# EAGLE library part MCIMX7D (library imx7d_1900X1900)
MCIMX7D Single ARM Cortex-A7 and Cortex-M4, 512 KB L2 Cache, 19x19
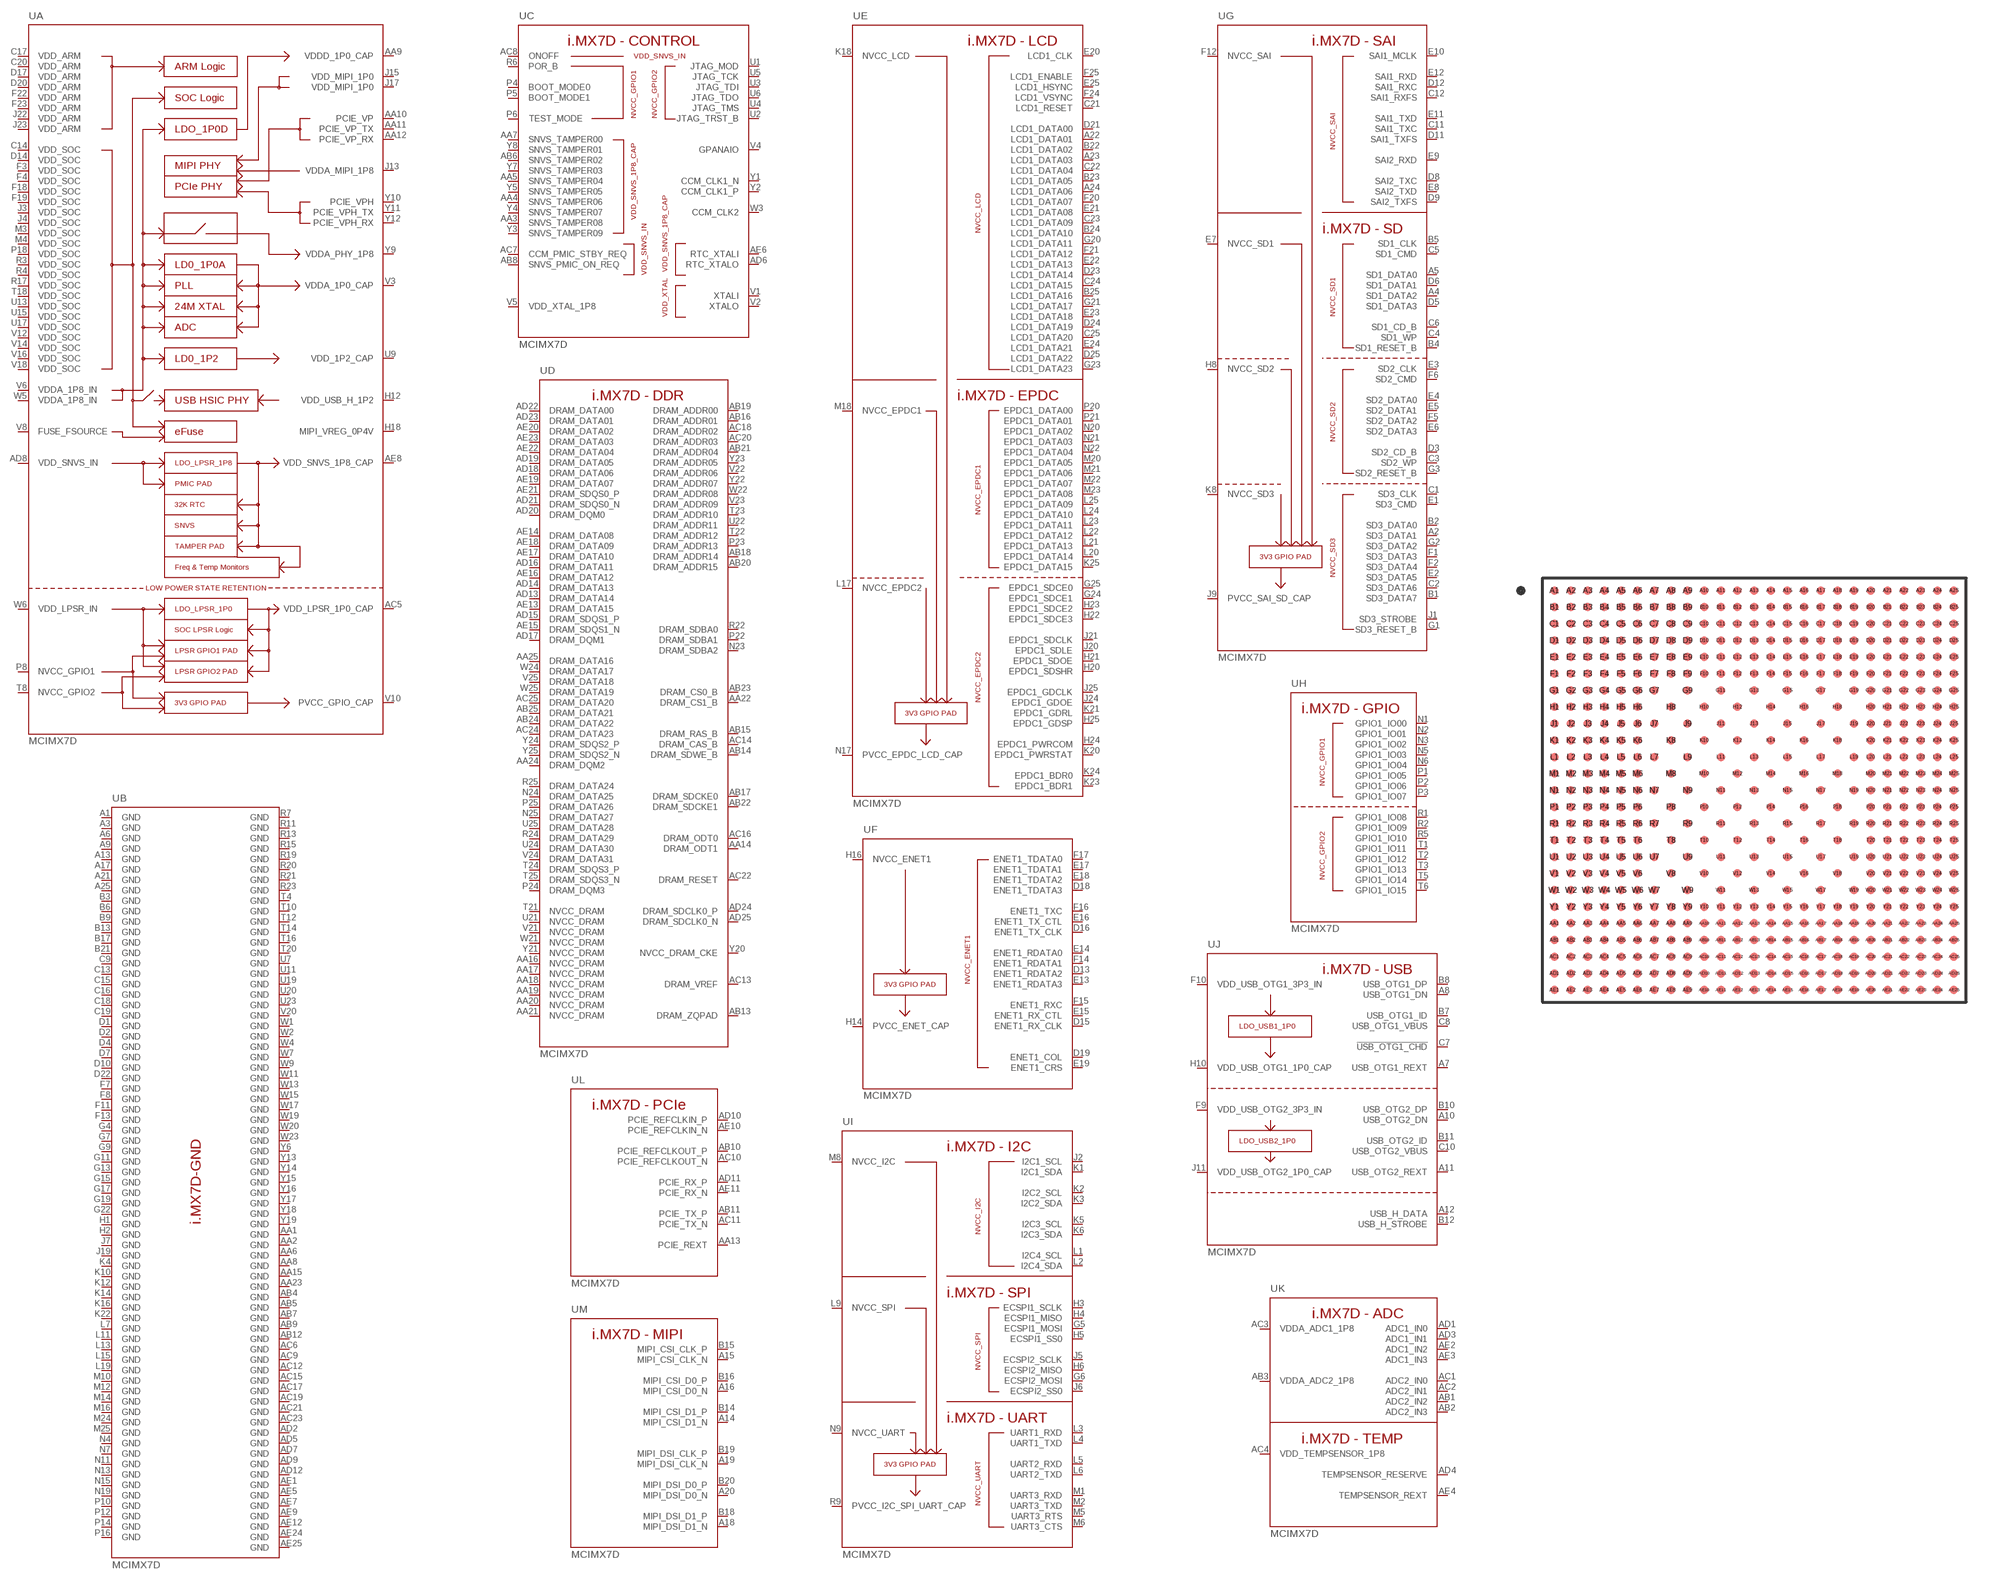
[diagram p0: symbol with the pads of BGA541C75P25X25_1900X1900X140N; footprint BGA541C75P25X25_1900X1900X140N]

Designator prefix U; gates A=I.MX7D-POWER B=I.MX7D-GND C=I.MX7D-CONTROL D=I.MX7D-DDR E=I.MX7D-DISPLAY F=I.MX7D-ENET G=I.MX7D-SAISD H=I.MX7D-GPIO I=I.MX7D-I2CSPIUART J=I.MX7D-USB K=I.MX7D-ADC L=I.MX7D-PCIE M=I.MX7D-MIPI

## MCIMX7D  [BGA541C75P25X25_1900X1900X140N]
A1  B:GND  pwr
A2  G:SD3_DATA1
A3  B:GND  pwr
A4  G:SD1_DATA2
A5  G:SD1_DATA0
A6  B:GND  pwr
A7  J:USB_OTG1_REXT  pas
A8  J:USB_OTG1_DN  pas
A9  B:GND  pwr
A10  J:USB_OTG2_DN  pas
A11  J:USB_OTG2_REXT  pas
A12  J:USB_H_DATA  pas
A13  B:GND  pwr
A14  M:MIPI_CSI_D1_N  pas
A15  M:MIPI_CSI_CLK_N  pas
A16  M:MIPI_CSI_D0_N  pas
A17  B:GND  pwr
A18  M:MIPI_DSI_D1_N  pas
A19  M:MIPI_DSI_CLK_N  pas
A20  M:MIPI_DSI_D0_N  pas
A21  B:GND  pwr
A22  E:LCD1_DATA01
A23  E:LCD1_DATA03
A24  E:LCD1_DATA06
A25  B:GND  pwr
AA1  B:GND  pwr
AA2  B:GND  pwr
AA3  C:SNVS_TAMPER08  pas
AA4  C:SNVS_TAMPER06  pas
AA5  C:SNVS_TAMPER04  pas
AA6  B:GND  pwr
AA7  C:SNVS_TAMPER00  pas
AA8  B:GND  pwr
AA9  A:VDDD_1P0_CAP  pwr
AA10  A:PCIE_VP  pas
AA11  A:PCIE_VP_TX  pas
AA12  A:PCIE_VP_RX  pas
AA13  L:PCIE_REXT  pas
AA14  D:DRAM_ODT1
AA15  B:GND  pwr
AA16  D:NVCC_DRAM  pwr
AA17  D:NVCC_DRAM  pwr
AA18  D:NVCC_DRAM  pwr
AA19  D:NVCC_DRAM  pwr
AA20  D:NVCC_DRAM  pwr
AA21  D:NVCC_DRAM  pwr
AA22  D:DRAM_CS1_B
AA23  B:GND  pwr
AA24  D:DRAM_DQM2
AA25  D:DRAM_DATA16
AB1  K:ADC2_IN2  pas
AB2  K:ADC2_IN3  pas
AB3  K:VDDA_ADC2_1P8  pwr
AB4  B:GND  pwr
AB5  B:GND  pwr
AB6  C:SNVS_TAMPER02  pas
AB7  B:GND  pwr
AB8  C:SNVS_PMIC_ON_REQ  pas
AB9  B:GND  pwr
AB10  L:PCIE_REFCLKOUT_P  pas
AB11  L:PCIE_TX_P  pas
AB12  B:GND  pwr
AB13  D:DRAM_ZQPAD  pas
AB14  D:DRAM_SDWE_B
AB15  D:DRAM_RAS_B
AB16  D:DRAM_ADDR01
AB17  D:DRAM_SDCKE0
AB18  D:DRAM_ADDR14
AB19  D:DRAM_ADDR00
AB20  D:DRAM_ADDR15
AB21  D:DRAM_ADDR04
AB22  D:DRAM_SDCKE1
AB23  D:DRAM_CS0_B
AB24  D:DRAM_DATA22
AB25  D:DRAM_DATA21
AC1  K:ADC2_IN0  pas
AC2  K:ADC2_IN1  pas
AC3  K:VDDA_ADC1_1P8  pwr
AC4  K:VDD_TEMPSENSOR_1P8  pwr
AC5  A:VDD_LPSR_1P0_CAP  pwr
AC6  B:GND  pwr
AC7  C:CCM_PMIC_STBY_REQ  pas
AC8  C:ONOFF  pas
AC9  B:GND  pwr
AC10  L:PCIE_REFCLKOUT_N  pas
AC11  L:PCIE_TX_N  pas
AC12  B:GND  pwr
AC13  D:DRAM_VREF  pas
AC14  D:DRAM_CAS_B
AC15  B:GND  pwr
AC16  D:DRAM_ODT0
AC17  B:GND  pwr
AC18  D:DRAM_ADDR02
AC19  B:GND  pwr
AC20  D:DRAM_ADDR03
AC21  B:GND  pwr
AC22  D:DRAM_RESET
AC23  B:GND  pwr
AC24  D:DRAM_DATA23
AC25  D:DRAM_DATA20
AD1  K:ADC1_IN0  pas
AD2  B:GND  pwr
AD3  K:ADC1_IN1  pas
AD4  K:TEMPSENSOR_RESERVE  pas
AD5  B:GND  pwr
AD6  C:RTC_XTALO  pas
AD7  B:GND  pwr
AD8  A:VDD_SNVS_IN  pwr
AD9  B:GND  pwr
AD10  L:PCIE_REFCLKIN_P  pas
AD11  L:PCIE_RX_P  pas
AD12  B:GND  pwr
AD13  D:DRAM_DATA14
AD14  D:DRAM_DATA13
AD15  D:DRAM_SDQS1_P
AD16  D:DRAM_DATA11
AD17  D:DRAM_DQM1
AD18  D:DRAM_DATA06
AD19  D:DRAM_DATA05
AD20  D:DRAM_DQM0
AD21  D:DRAM_SDQS0_N  pas
AD22  D:DRAM_DATA00
AD23  D:DRAM_DATA01
AD24  D:DRAM_SDCLK0_P
AD25  D:DRAM_SDCLK0_N  pas
AE1  B:GND  pwr
AE2  K:ADC1_IN2  pas
AE3  K:ADC1_IN3  pas
AE4  K:TEMPSENSOR_REXT  pas
AE5  B:GND  pwr
AE6  C:RTC_XTALI  pas
AE7  B:GND  pwr
AE8  A:VDD_SNVS_1P8_CAP  pwr
AE9  B:GND  pwr
AE10  L:PCIE_REFCLKIN_N  pas
AE11  L:PCIE_RX_N  pas
AE12  B:GND  pwr
AE13  D:DRAM_DATA15
AE14  D:DRAM_DATA08
AE15  D:DRAM_SDQS1_N  pas
AE16  D:DRAM_DATA12
AE17  D:DRAM_DATA10
AE18  D:DRAM_DATA09
AE19  D:DRAM_DATA07
AE20  D:DRAM_DATA02
AE21  D:DRAM_SDQS0_P
AE22  D:DRAM_DATA04
AE23  D:DRAM_DATA03
AE24  B:GND  pwr
AE25  B:GND  pwr
B1  G:SD3_DATA7
B2  G:SD3_DATA0
B3  B:GND  pwr
B4  G:SD1_RESET_B
B5  G:SD1_CLK
B6  B:GND  pwr
B7  J:USB_OTG1_ID  pas
B8  J:USB_OTG1_DP  pas
B9  B:GND  pwr
B10  J:USB_OTG2_DP  pas
B11  J:USB_OTG2_ID  pas
B12  J:USB_H_STROBE  pas
B13  B:GND  pwr
B14  M:MIPI_CSI_D1_P  pas
B15  M:MIPI_CSI_CLK_P  pas
B16  M:MIPI_CSI_D0_P  pas
B17  B:GND  pwr
B18  M:MIPI_DSI_D1_P  pas
B19  M:MIPI_DSI_CLK_P  pas
B20  M:MIPI_DSI_D0_P  pas
B21  B:GND  pwr
B22  E:LCD1_DATA02
B23  E:LCD1_DATA05
B24  E:LCD1_DATA10
B25  E:LCD1_DATA16
C1  G:SD3_CLK
C2  G:SD3_DATA6
C3  G:SD2_WP
C4  G:SD1_WP
C5  G:SD1_CMD
C6  G:SD1_CD_B
C7  J:!USB_OTG1_CHD  pas
C8  J:USB_OTG1_VBUS  pas
C9  B:GND  pwr
C10  J:USB_OTG2_VBUS  pas
C11  G:SAI1_TXC
C12  G:SAI1_RXFS
C13  B:GND  pwr
C14  A:VDD_SOC  pwr
C15  B:GND  pwr
C16  B:GND  pwr
C17  A:VDD_ARM  pwr
C18  B:GND  pwr
C19  B:GND  pwr
C20  A:VDD_ARM  pwr
C21  E:LCD1_RESET
C22  E:LCD1_DATA04
C23  E:LCD1_DATA09
C24  E:LCD1_DATA15
C25  E:LCD1_DATA20
D1  B:GND  pwr
D2  B:GND  pwr
D3  G:SD2_CD_B
D4  B:GND  pwr
D5  G:SD1_DATA3
D6  G:SD1_DATA1
D7  B:GND  pwr
D8  G:SAI2_TXC
D9  G:SAI2_TXFS
D10  B:GND  pwr
D11  G:SAI1_TXFS
D12  G:SAI1_RXC
D13  F:ENET1_RDATA2
D14  A:VDD_SOC  pwr
D15  F:ENET1_RX_CLK
D16  F:ENET1_TX_CLK
D17  A:VDD_ARM  pwr
D18  F:ENET1_TDATA3
D19  F:ENET1_COL
D20  A:VDD_ARM  pwr
D21  E:LCD1_DATA00
D22  B:GND  pwr
D23  E:LCD1_DATA14
D24  E:LCD1_DATA19
D25  E:LCD1_DATA22
E1  G:SD3_CMD
E2  G:SD3_DATA5
E3  G:SD2_CLK
E4  G:SD2_DATA0
E5  G:SD2_DATA1
E6  G:SD2_DATA3
E7  G:NVCC_SD1  pwr
E8  G:SAI2_TXD
E9  G:SAI2_RXD
E10  G:SAI1_MCLK
E11  G:SAI1_TXD
E12  G:SAI1_RXD
E13  F:ENET1_RDATA3
E14  F:ENET1_RDATA0
E15  F:ENET1_RX_CTL
E16  F:ENET1_TX_CTL
E17  F:ENET1_TDATA1
E18  F:ENET1_TDATA2
E19  F:ENET1_CRS
E20  E:LCD1_CLK
E21  E:LCD1_DATA08
E22  E:LCD1_DATA13
E23  E:LCD1_DATA18
E24  E:LCD1_DATA21
E25  E:LCD1_HSYNC
F1  G:SD3_DATA3
F2  G:SD3_DATA4
F3  A:VDD_SOC  pwr
F4  A:VDD_SOC  pwr
F5  G:SD2_DATA2
F6  G:SD2_CMD
F7  B:GND  pwr
F8  B:GND  pwr
F9  J:VDD_USB_OTG2_3P3_IN  pwr
F10  J:VDD_USB_OTG1_3P3_IN  pwr
F11  B:GND  pwr
F12  G:NVCC_SAI  pwr
F13  B:GND  pwr
F14  F:ENET1_RDATA1
F15  F:ENET1_RXC
F16  F:ENET1_TXC
F17  F:ENET1_TDATA0
F18  A:VDD_SOC  pwr
F19  A:VDD_SOC  pwr
F20  E:LCD1_DATA07
F21  E:LCD1_DATA12
F22  A:VDD_ARM  pwr
F23  A:VDD_ARM  pwr
F24  E:LCD1_VSYNC
F25  E:LCD1_ENABLE
G1  G:SD3_RESET_B
G2  G:SD3_DATA2
G3  G:SD2_RESET_B
G4  B:GND  pwr
G5  I:ECSPI1_MOSI
G6  I:ECSPI2_MOSI
G7  B:GND  pwr
G9  B:GND  pwr
G11  B:GND  pwr
G13  B:GND  pwr
G15  B:GND  pwr
G17  B:GND  pwr
G19  B:GND  pwr
G20  E:LCD1_DATA11
G21  E:LCD1_DATA17
G22  B:GND  pwr
G23  E:LCD1_DATA23
G24  E:EPDC1_SDCE1
G25  E:EPDC1_SDCE0
H1  B:GND  pwr
H2  B:GND  pwr
H3  I:ECSPI1_SCLK
H4  I:ECSPI1_MISO
H5  I:ECSPI1_SS0
H6  I:ECSPI2_MISO
H8  G:NVCC_SD2  pwr
H10  J:VDD_USB_OTG1_1P0_CAP  pwr
H12  A:VDD_USB_H_1P2  pwr
H14  F:PVCC_ENET_CAP  pwr
H16  F:NVCC_ENET1  pwr
H18  A:MIPI_VREG_0P4V  pas
H20  E:EPDC1_SDSHR
H21  E:EPDC1_SDOE
H22  E:EPDC1_SDCE3
H23  E:EPDC1_SDCE2
H24  E:EPDC1_PWRCOM
H25  E:EPDC1_GDSP
J1  G:SD3_STROBE
J2  I:I2C1_SCL
J3  A:VDD_SOC  pwr
J4  A:VDD_SOC  pwr
J5  I:ECSPI2_SCLK
J6  I:ECSPI2_SS0
J7  B:GND  pwr
J9  G:PVCC_SAI_SD_CAP  pwr
J11  J:VDD_USB_OTG2_1P0_CAP  pwr
J13  A:VDDA_MIPI_1P8  pwr
J15  A:VDD_MIPI_1P0  pwr
J17  A:VDD_MIPI_1P0  pwr
J19  B:GND  pwr
J20  E:EPDC1_SDLE
J21  E:EPDC1_SDCLK
J22  A:VDD_ARM  pwr
J23  A:VDD_ARM  pwr
J24  E:EPDC1_GDOE
J25  E:EPDC1_GDCLK
K1  I:I2C1_SDA
K2  I:I2C2_SCL
K3  I:I2C2_SDA
K4  B:GND  pwr
K5  I:I2C3_SCL
K6  I:I2C3_SDA
K8  G:NVCC_SD3  pwr
K10  B:GND  pwr
K12  B:GND  pwr
K14  B:GND  pwr
K16  B:GND  pwr
K18  E:NVCC_LCD  pwr
K20  E:EPDC1_PWRSTAT
K21  E:EPDC1_GDRL
K22  B:GND  pwr
K23  E:EPDC1_BDR1
K24  E:EPDC1_BDR0
K25  E:EPDC1_DATA15
L1  I:I2C4_SCL
L2  I:I2C4_SDA
L3  I:UART1_RXD
L4  I:UART1_TXD
L5  I:UART2_RXD
L6  I:UART2_TXD
L7  B:GND  pwr
L9  I:NVCC_SPI  pwr
L11  B:GND  pwr
L13  B:GND  pwr
L15  B:GND  pwr
L17  E:NVCC_EPDC2  pwr
L19  B:GND  pwr
L20  E:EPDC1_DATA14
L21  E:EPDC1_DATA13
L22  E:EPDC1_DATA12
L23  E:EPDC1_DATA11
L24  E:EPDC1_DATA10
L25  E:EPDC1_DATA09
M1  I:UART3_RXD
M2  I:UART3_TXD
M3  A:VDD_SOC  pwr
M4  A:VDD_SOC  pwr
M5  I:UART3_RTS
M6  I:UART3_CTS
M8  I:NVCC_I2C  pwr
M10  B:GND  pwr
M12  B:GND  pwr
M14  B:GND  pwr
M16  B:GND  pwr
M18  E:NVCC_EPDC1  pwr
M20  E:EPDC1_DATA05
M21  E:EPDC1_DATA06
M22  E:EPDC1_DATA07
M23  E:EPDC1_DATA08
M24  B:GND  pwr
M25  B:GND  pwr
N1  H:GPIO1_IO00
N2  H:GPIO1_IO01
N3  H:GPIO1_IO02
N4  B:GND  pwr
N5  H:GPIO1_IO03
N6  H:GPIO1_IO04
N7  B:GND  pwr
N9  I:NVCC_UART  pwr
N11  B:GND  pwr
N13  B:GND  pwr
N15  B:GND  pwr
N17  E:PVCC_EPDC_LCD_CAP  pwr
N19  B:GND  pwr
N20  E:EPDC1_DATA02
N21  E:EPDC1_DATA03
N22  E:EPDC1_DATA04
N23  D:DRAM_SDBA2
N24  D:DRAM_DATA25
N25  D:DRAM_DATA27
P1  H:GPIO1_IO05
P2  H:GPIO1_IO06
P3  H:GPIO1_IO07
P4  C:BOOT_MODE0
P5  C:BOOT_MODE1
P6  C:TEST_MODE  in
P8  A:NVCC_GPIO1  pwr
P10  B:GND  pwr
P12  B:GND  pwr
P14  B:GND  pwr
P16  B:GND  pwr
P18  A:VDD_SOC  pwr
P20  E:EPDC1_DATA00
P21  E:EPDC1_DATA01
P22  D:DRAM_SDBA1
P23  D:DRAM_ADDR13
P24  D:DRAM_DQM3
P25  D:DRAM_DATA26
R1  H:GPIO1_IO08
R2  H:GPIO1_IO09
R3  A:VDD_SOC  pwr
R4  A:VDD_SOC  pwr
R5  H:GPIO1_IO10
R6  C:POR_B  in
R7  B:GND  pwr
R9  I:PVCC_I2C_SPI_UART_CAP  pwr
R11  B:GND  pwr
R13  B:GND  pwr
R15  B:GND  pwr
R17  A:VDD_SOC  pwr
R19  B:GND  pwr
R20  B:GND  pwr
R21  B:GND  pwr
R22  D:DRAM_SDBA0
R23  B:GND  pwr
R24  D:DRAM_DATA29
R25  D:DRAM_DATA24
T1  H:GPIO1_IO11
T2  H:GPIO1_IO12
T3  H:GPIO1_IO13
T4  B:GND  pwr
T5  H:GPIO1_IO14
T6  H:GPIO1_IO15
T8  A:NVCC_GPIO2  pwr
T10  B:GND  pwr
T12  B:GND  pwr
T14  B:GND  pwr
T16  B:GND  pwr
T18  A:VDD_SOC  pwr
T20  B:GND  pwr
T21  D:NVCC_DRAM  pwr
T22  D:DRAM_ADDR12
T23  D:DRAM_ADDR10
T24  D:DRAM_SDQS3_P
T25  D:DRAM_SDQS3_N  pas
U1  C:JTAG_MOD  in
U2  C:JTAG_TRST_B  in
U3  C:JTAG_TDI  in
U4  C:JTAG_TMS  in
U5  C:JTAG_TCK  in
U6  C:JTAG_TDO  out
U7  B:GND  pwr
U9  A:VDD_1P2_CAP  pwr
U11  B:GND  pwr
U13  A:VDD_SOC  pwr
U15  A:VDD_SOC  pwr
U17  A:VDD_SOC  pwr
U19  B:GND  pwr
U20  B:GND  pwr
U21  D:NVCC_DRAM  pwr
U22  D:DRAM_ADDR11
U23  B:GND  pwr
U24  D:DRAM_DATA30
U25  D:DRAM_DATA28
V1  C:XTALI  pas
V2  C:XTALO  pas
V3  A:VDDA_1P0_CAP  pwr
V4  C:GPANAIO  pas
V5  C:VDD_XTAL_1P8  pwr
V6  A:VDDA_1P8_IN  pwr
V8  A:FUSE_FSOURCE  pas
V10  A:PVCC_GPIO_CAP  pwr
V12  A:VDD_SOC  pwr
V14  A:VDD_SOC  pwr
V16  A:VDD_SOC  pwr
V18  A:VDD_SOC  pwr
V20  B:GND  pwr
V21  D:NVCC_DRAM  pwr
V22  D:DRAM_ADDR06
V23  D:DRAM_ADDR09
V24  D:DRAM_DATA31
V25  D:DRAM_DATA18
W1  B:GND  pwr
W2  B:GND  pwr
W3  C:CCM_CLK2  pas
W4  B:GND  pwr
W5  A:VDDA_1P8_IN  pwr
W6  A:VDD_LPSR_IN  pwr
W7  B:GND  pwr
W9  B:GND  pwr
W11  B:GND  pwr
W13  B:GND  pwr
W15  B:GND  pwr
W17  B:GND  pwr
W19  B:GND  pwr
W20  B:GND  pwr
W21  D:NVCC_DRAM  pwr
W22  D:DRAM_ADDR08
W23  B:GND  pwr
W24  D:DRAM_DATA17
W25  D:DRAM_DATA19
Y1  C:CCM_CLK1_N  pas
Y2  C:CCM_CLK1_P  pas
Y3  C:SNVS_TAMPER09  pas
Y4  C:SNVS_TAMPER07  pas
Y5  C:SNVS_TAMPER05  pas
Y6  B:GND  pwr
Y7  C:SNVS_TAMPER03  pas
Y8  C:SNVS_TAMPER01  pas
Y9  A:VDDA_PHY_1P8  pwr
Y10  A:PCIE_VPH  pas
Y11  A:PCIE_VPH_TX  pas
Y12  A:PCIE_VPH_RX  pas
Y13  B:GND  pwr
Y14  B:GND  pwr
Y15  B:GND  pwr
Y16  B:GND  pwr
Y17  B:GND  pwr
Y18  B:GND  pwr
Y19  B:GND  pwr
Y20  D:NVCC_DRAM_CKE  pwr
Y21  D:NVCC_DRAM  pwr
Y22  D:DRAM_ADDR07
Y23  D:DRAM_ADDR05
Y24  D:DRAM_SDQS2_P
Y25  D:DRAM_SDQS2_N  pas

## Footprint BGA541C75P25X25_1900X1900X140N (pad centres in mm)
smd 0.37 x 0.37: A1 -9,9; A2 -8.25,9; A3 -7.5,9; A4 -6.75,9; A5 -6,9; A6 -5.25,9; A7 -4.5,9; A8 -3.75,9; A9 -3,9; A10 -2.25,9; A11 -1.5,9; A12 -0.75,9; A13 0,9; A14 0.75,9; A15 1.5,9; A16 2.25,9; A17 3,9; A18 3.75,9; A19 4.5,9; A20 5.25,9; A21 6,9; A22 6.75,9; A23 7.5,9; A24 8.25,9; A25 9,9; AA1 -9,-6; AA2 -8.25,-6; AA3 -7.5,-6; AA4 -6.75,-6; AA5 -6,-6; AA6 -5.25,-6; AA7 -4.5,-6; AA8 -3.75,-6; AA9 -3,-6; AA10 -2.25,-6; AA11 -1.5,-6; AA12 -0.75,-6; AA13 0,-6; AA14 0.75,-6; AA15 1.5,-6; AA16 2.25,-6; AA17 3,-6; AA18 3.75,-6; AA19 4.5,-6; AA20 5.25,-6; AA21 6,-6; AA22 6.75,-6; AA23 7.5,-6; AA24 8.25,-6; AA25 9,-6; AB1 -9,-6.75; AB2 -8.25,-6.75; AB3 -7.5,-6.75; AB4 -6.75,-6.75; AB5 -6,-6.75; AB6 -5.25,-6.75; AB7 -4.5,-6.75; AB8 -3.75,-6.75; AB9 -3,-6.75; AB10 -2.25,-6.75; AB11 -1.5,-6.75; AB12 -0.75,-6.75; AB13 0,-6.75; AB14 0.75,-6.75; AB15 1.5,-6.75; AB16 2.25,-6.75; AB17 3,-6.75; AB18 3.75,-6.75; AB19 4.5,-6.75; AB20 5.25,-6.75; AB21 6,-6.75; AB22 6.75,-6.75; AB23 7.5,-6.75; AB24 8.25,-6.75; AB25 9,-6.75; AC1 -9,-7.5; AC2 -8.25,-7.5; AC3 -7.5,-7.5; AC4 -6.75,-7.5; AC5 -6,-7.5; AC6 -5.25,-7.5; AC7 -4.5,-7.5; AC8 -3.75,-7.5; AC9 -3,-7.5; AC10 -2.25,-7.5; AC11 -1.5,-7.5; AC12 -0.75,-7.5; AC13 0,-7.5; AC14 0.75,-7.5; AC15 1.5,-7.5; AC16 2.25,-7.5; AC17 3,-7.5; AC18 3.75,-7.5; AC19 4.5,-7.5; AC20 5.25,-7.5; AC21 6,-7.5; AC22 6.75,-7.5; AC23 7.5,-7.5; AC24 8.25,-7.5; AC25 9,-7.5; AD1 -9,-8.25; AD2 -8.25,-8.25; AD3 -7.5,-8.25; AD4 -6.75,-8.25; AD5 -6,-8.25; AD6 -5.25,-8.25; AD7 -4.5,-8.25; AD8 -3.75,-8.25; AD9 -3,-8.25; AD10 -2.25,-8.25; AD11 -1.5,-8.25; AD12 -0.75,-8.25; AD13 0,-8.25; AD14 0.75,-8.25; AD15 1.5,-8.25; AD16 2.25,-8.25; AD17 3,-8.25; AD18 3.75,-8.25; AD19 4.5,-8.25; AD20 5.25,-8.25; AD21 6,-8.25; AD22 6.75,-8.25; AD23 7.5,-8.25; AD24 8.25,-8.25; AD25 9,-8.25; AE1 -9,-9; AE2 -8.25,-9; AE3 -7.5,-9; AE4 -6.75,-9; AE5 -6,-9; AE6 -5.25,-9; AE7 -4.5,-9; AE8 -3.75,-9; AE9 -3,-9; AE10 -2.25,-9; AE11 -1.5,-9; AE12 -0.75,-9; AE13 0,-9; AE14 0.75,-9; AE15 1.5,-9; AE16 2.25,-9; AE17 3,-9; AE18 3.75,-9; AE19 4.5,-9; AE20 5.25,-9; AE21 6,-9; AE22 6.75,-9; AE23 7.5,-9; AE24 8.25,-9; AE25 9,-9; B1 -9,8.25; B2 -8.25,8.25; B3 -7.5,8.25; B4 -6.75,8.25; B5 -6,8.25; B6 -5.25,8.25; B7 -4.5,8.25; B8 -3.75,8.25; B9 -3,8.25; B10 -2.25,8.25; B11 -1.5,8.25; B12 -0.75,8.25; B13 0,8.25; B14 0.75,8.25; B15 1.5,8.25; B16 2.25,8.25; B17 3,8.25; B18 3.75,8.25; B19 4.5,8.25; B20 5.25,8.25; B21 6,8.25; B22 6.75,8.25; B23 7.5,8.25; B24 8.25,8.25; B25 9,8.25; C1 -9,7.5; C2 -8.25,7.5; C3 -7.5,7.5; C4 -6.75,7.5; C5 -6,7.5; C6 -5.25,7.5; C7 -4.5,7.5; C8 -3.75,7.5; C9 -3,7.5; C10 -2.25,7.5; C11 -1.5,7.5; C12 -0.75,7.5; C13 0,7.5; C14 0.75,7.5; C15 1.5,7.5; C16 2.25,7.5; C17 3,7.5; C18 3.75,7.5; C19 4.5,7.5; C20 5.25,7.5; C21 6,7.5; C22 6.75,7.5; C23 7.5,7.5; C24 8.25,7.5; C25 9,7.5; D1 -9,6.75; D2 -8.25,6.75; D3 -7.5,6.75; D4 -6.75,6.75; D5 -6,6.75; D6 -5.25,6.75; D7 -4.5,6.75; D8 -3.75,6.75; D9 -3,6.75; D10 -2.25,6.75; D11 -1.5,6.75; D12 -0.75,6.75; D13 0,6.75; D14 0.75,6.75; D15 1.5,6.75; D16 2.25,6.75; D17 3,6.75; D18 3.75,6.75; D19 4.5,6.75; D20 5.25,6.75; D21 6,6.75; D22 6.75,6.75; D23 7.5,6.75; D24 8.25,6.75; D25 9,6.75; E1 -9,6; E2 -8.25,6; E3 -7.5,6; E4 -6.75,6; E5 -6,6; E6 -5.25,6; E7 -4.5,6; E8 -3.75,6; E9 -3,6; E10 -2.25,6; E11 -1.5,6; E12 -0.75,6; E13 0,6; E14 0.75,6; E15 1.5,6; E16 2.25,6; E17 3,6; E18 3.75,6; E19 4.5,6; E20 5.25,6; E21 6,6; E22 6.75,6; E23 7.5,6; E24 8.25,6; E25 9,6; F1 -9,5.25; F2 -8.25,5.25; F3 -7.5,5.25; F4 -6.75,5.25; F5 -6,5.25; F6 -5.25,5.25; F7 -4.5,5.25; F8 -3.75,5.25; F9 -3,5.25; F10 -2.25,5.25; F11 -1.5,5.25; F12 -0.75,5.25; F13 0,5.25; F14 0.75,5.25; F15 1.5,5.25; F16 2.25,5.25; F17 3,5.25; F18 3.75,5.25; F19 4.5,5.25; F20 5.25,5.25; F21 6,5.25; F22 6.75,5.25; F23 7.5,5.25; F24 8.25,5.25; F25 9,5.25; G1 -9,4.5; G2 -8.25,4.5; G3 -7.5,4.5; G4 -6.75,4.5; G5 -6,4.5; G6 -5.25,4.5; G7 -4.5,4.5; G9 -3,4.5; G11 -1.5,4.5; G13 0,4.5; G15 1.5,4.5; G17 3,4.5; G19 4.5,4.5; G20 5.25,4.5; G21 6,4.5; G22 6.75,4.5; G23 7.5,4.5; G24 8.25,4.5; G25 9,4.5; H1 -9,3.75; H2 -8.25,3.75; H3 -7.5,3.75; H4 -6.75,3.75; H5 -6,3.75; H6 -5.25,3.75; H8 -3.75,3.75; H10 -2.25,3.75; H12 -0.75,3.75; H14 0.75,3.75; H16 2.25,3.75; H18 3.75,3.75; H20 5.25,3.75; H21 6,3.75; H22 6.75,3.75; H23 7.5,3.75; H24 8.25,3.75; H25 9,3.75; J1 -9,3; J2 -8.25,3; J3 -7.5,3; J4 -6.75,3; J5 -6,3; J6 -5.25,3; J7 -4.5,3; J9 -3,3; J11 -1.5,3; J13 0,3; J15 1.5,3; J17 3,3; J19 4.5,3; J20 5.25,3; J21 6,3; J22 6.75,3; J23 7.5,3; J24 8.25,3; J25 9,3; K1 -9,2.25; K2 -8.25,2.25; K3 -7.5,2.25; K4 -6.75,2.25; K5 -6,2.25; K6 -5.25,2.25; K8 -3.75,2.25; K10 -2.25,2.25; K12 -0.75,2.25; K14 0.75,2.25; K16 2.25,2.25; K18 3.75,2.25; K20 5.25,2.25; K21 6,2.25; K22 6.75,2.25; K23 7.5,2.25; K24 8.25,2.25; K25 9,2.25; L1 -9,1.5; L2 -8.25,1.5; L3 -7.5,1.5; L4 -6.75,1.5; L5 -6,1.5; L6 -5.25,1.5; L7 -4.5,1.5; L9 -3,1.5; L11 -1.5,1.5; L13 0,1.5; L15 1.5,1.5; L17 3,1.5; L19 4.5,1.5; L20 5.25,1.5; L21 6,1.5; L22 6.75,1.5; L23 7.5,1.5; L24 8.25,1.5; L25 9,1.5; M1 -9,0.75; M2 -8.25,0.75; M3 -7.5,0.75; M4 -6.75,0.75; M5 -6,0.75; M6 -5.25,0.75; M8 -3.75,0.75; M10 -2.25,0.75; M12 -0.75,0.75; M14 0.75,0.75; M16 2.25,0.75; M18 3.75,0.75; M20 5.25,0.75; M21 6,0.75; M22 6.75,0.75; M23 7.5,0.75; M24 8.25,0.75; M25 9,0.75; N1 -9,0; N2 -8.25,0; N3 -7.5,0; N4 -6.75,0; N5 -6,0; N6 -5.25,0; N7 -4.5,0; N9 -3,0; N11 -1.5,0; N13 0,0; N15 1.5,0; N17 3,0; N19 4.5,0; N20 5.25,0; N21 6,0; N22 6.75,0; N23 7.5,0; N24 8.25,0; N25 9,0; P1 -9,-0.75; P2 -8.25,-0.75; P3 -7.5,-0.75; P4 -6.75,-0.75; P5 -6,-0.75; P6 -5.25,-0.75; P8 -3.75,-0.75; P10 -2.25,-0.75; P12 -0.75,-0.75; P14 0.75,-0.75; P16 2.25,-0.75; P18 3.75,-0.75; P20 5.25,-0.75; P21 6,-0.75; P22 6.75,-0.75; P23 7.5,-0.75; P24 8.25,-0.75; P25 9,-0.75; R1 -9,-1.5; R2 -8.25,-1.5; R3 -7.5,-1.5; R4 -6.75,-1.5; R5 -6,-1.5; R6 -5.25,-1.5; R7 -4.5,-1.5; R9 -3,-1.5; R11 -1.5,-1.5; R13 0,-1.5; R15 1.5,-1.5; R17 3,-1.5; R19 4.5,-1.5; R20 5.25,-1.5; R21 6,-1.5; R22 6.75,-1.5; R23 7.5,-1.5; R24 8.25,-1.5; R25 9,-1.5; T1 -9,-2.25; T2 -8.25,-2.25; T3 -7.5,-2.25; T4 -6.75,-2.25; T5 -6,-2.25; T6 -5.25,-2.25; T8 -3.75,-2.25; T10 -2.25,-2.25; T12 -0.75,-2.25; T14 0.75,-2.25; T16 2.25,-2.25; T18 3.75,-2.25; T20 5.25,-2.25; T21 6,-2.25; T22 6.75,-2.25; T23 7.5,-2.25; T24 8.25,-2.25; T25 9,-2.25; U1 -9,-3; U2 -8.25,-3; U3 -7.5,-3; U4 -6.75,-3; U5 -6,-3; U6 -5.25,-3; U7 -4.5,-3; U9 -3,-3; U11 -1.5,-3; U13 0,-3; U15 1.5,-3; U17 3,-3; U19 4.5,-3; U20 5.25,-3; U21 6,-3; U22 6.75,-3; U23 7.5,-3; U24 8.25,-3; U25 9,-3; V1 -9,-3.75; V2 -8.25,-3.75; V3 -7.5,-3.75; V4 -6.75,-3.75; V5 -6,-3.75; V6 -5.25,-3.75; V8 -3.75,-3.75; V10 -2.25,-3.75; V12 -0.75,-3.75; V14 0.75,-3.75; V16 2.25,-3.75; V18 3.75,-3.75; V20 5.25,-3.75; V21 6,-3.75; V22 6.75,-3.75; V23 7.5,-3.75; V24 8.25,-3.75; V25 9,-3.75; W1 -9,-4.5; W2 -8.25,-4.5; W3 -7.5,-4.5; W4 -6.75,-4.5; W5 -6,-4.5; W6 -5.25,-4.5; W7 -4.5,-4.5; W9 -3,-4.5; W11 -1.5,-4.5; W13 0,-4.5; W15 1.5,-4.5; W17 3,-4.5; W19 4.5,-4.5; W20 5.25,-4.5; W21 6,-4.5; W22 6.75,-4.5; W23 7.5,-4.5; W24 8.25,-4.5; W25 9,-4.5; Y1 -9,-5.25; Y2 -8.25,-5.25; Y3 -7.5,-5.25; Y4 -6.75,-5.25; Y5 -6,-5.25; Y6 -5.25,-5.25; Y7 -4.5,-5.25; Y8 -3.75,-5.25; Y9 -3,-5.25; Y10 -2.25,-5.25; Y11 -1.5,-5.25; Y12 -0.75,-5.25; Y13 0,-5.25; Y14 0.75,-5.25; Y15 1.5,-5.25; Y16 2.25,-5.25; Y17 3,-5.25; Y18 3.75,-5.25; Y19 4.5,-5.25; Y20 5.25,-5.25; Y21 6,-5.25; Y22 6.75,-5.25; Y23 7.5,-5.25; Y24 8.25,-5.25; Y25 9,-5.25